# Altium schematic symbol library Mounting Bracket.SchLib: 4 symbols
Pins are listed as number, name and electrical type; pins without a type are passive.

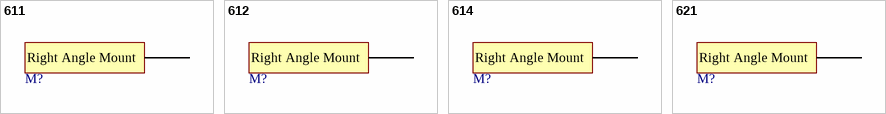
[diagram p0: symbols 611 to 621]

## 611
designator M?  (value not drawn)
BRACKET RT ANG MOUNT 8-32 BRASS; Manufacturer: Keystone Electronics; Shape: Short L; Thread Size: 0.135" (3.43mm), 8-32; Part Number: 611; PartId: 16178; Supplier 1: Digi-Key; Supplier Part Number 1: 36-611-ND; ComponentLink1Description: Datasheet; ComponentLink1URL: http://www.keyelco.com/product-pdf.cfm?p=2501; ComponentLink2Description: Digi-Key Listing; ComponentLink2URL: http://www.digikey.com/product-search/en/hardware-fasteners-accessories/mounting-brackets/2097394?k=keystone%20611; Price: 0.36; Type: Bracket, Threaded Hole(s); Series: -
footprint Keystone 611
pins: 1 Right Angle Mount

## 612
designator M?  (value not drawn)
BRACKET RT ANG MOUNT 4-40 STEEL; Manufacturer: Keystone Electronics; Shape: Short L; Thread Size: 0.130" (3.30mm), 4-40; Part Number: 612; PartId: 16179; Supplier 1: Digi-Key; Supplier Part Number 1: 36-612-ND; ComponentLink1Description: Datasheet; ComponentLink1URL: http://www.keyelco.com/product-pdf.cfm?p=2502; ComponentLink2Description: Digi-Key Listing; ComponentLink2URL: http://www.digikey.com/product-search/en/hardware-fasteners-accessories/mounting-brackets/2097394?k=keystone%20612; Price: 0.29; Type: Bracket, Threaded Hole(s); Series: -
footprint Keystone 612
pins: 1 Right Angle Mount

## 614
designator M?  (value not drawn)
BRACKET RT ANG MOUNT 6-32 BRASS; Manufacturer: Keystone Electronics; Shape: Short L; Thread Size: 0.144" (3.66mm), 6-32; Part Number: 614; PartId: 16180; Supplier 1: Digi-Key; Supplier Part Number 1: 36-614-ND; ComponentLink1Description: Datasheet; ComponentLink1URL: http://www.keyelco.com/product-pdf.cfm?p=2503; ComponentLink2Description: Digi-Key Listing; ComponentLink2URL: http://www.digikey.com/product-search/en/hardware-fasteners-accessories/mounting-brackets/2097394?k=keystone%20614; Price: 0.36; Type: Bracket, Threaded Hole(s); Series: -
footprint Keystone 614
pins: 1 Right Angle Mount

## 621
designator M?  (value not drawn)
BRACKET RT ANG MOUNT 4-40 STEEL; Manufacturer: Keystone Electronics; Shape: Short L; Thread Size: #4-40 (2); Part Number: 621; PartId: 16181; Supplier 1: Digi-Key; Supplier Part Number 1: 36-621-ND; ComponentLink1Description: Datasheet; ComponentLink1URL: http://www.keyelco.com/product-pdf.cfm?p=2506; ComponentLink2Description: Digi-Key Listing; ComponentLink2URL: http://www.digikey.com/product-search/en/hardware-fasteners-accessories/mounting-brackets/2097394?k=keystone%20621; Price: 0.37; Type: Bracket, Threaded Hole(s); Series: -
footprint Keystone 621
pins: 1 Right Angle Mount